# Altium schematic symbol library TPS2051BDGN.SchLib: 1 symbol
Pins are listed as number, name and electrical type; pins without a type are passive.

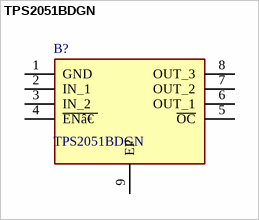
[diagram p0: symbol TPS2051BDGN]

## TPS2051BDGN
designator B?
Single, Current-Limited, Power-Distribution Switch; Manufacturer_Name: Texas Instruments; Geometry.Height: 1.1mm; Mouser Part Number: 595-TPS2051BDGN; Mouser Price/Stock: https://www.mouser.co.uk/ProductDetail/Texas-Instruments/TPS2051BDGN?qs=ojKcPFmCWSUKr%252BVWzrslRQ%3D%3D; Manufacturer_Part_Number: TPS2051BDGN; Datasheet Link: http://www.ti.com/lit/gpn/TPS2051B
footprint SOP65P490X110-9N
pins: 1 GND, 2 IN_1, 3 IN_2, 4 ~{ENâ€ }, 5 ~{OC}, 6 OUT_1, 7 OUT_2, 8 OUT_3, 9 EP